# Altium footprint library 2016-03-14_16-10-16.PcbLib: 9 footprints
Each footprint in its own frame and in the unit in brackets; x right, y up, seen from the top. Pads: shape width x height; smd on the part's side, far side on the other; paste and mask are expansions set on the pad; w line width, h text height; cw(c..) or ccw(c..) is an arc to the next point about the centre after c.
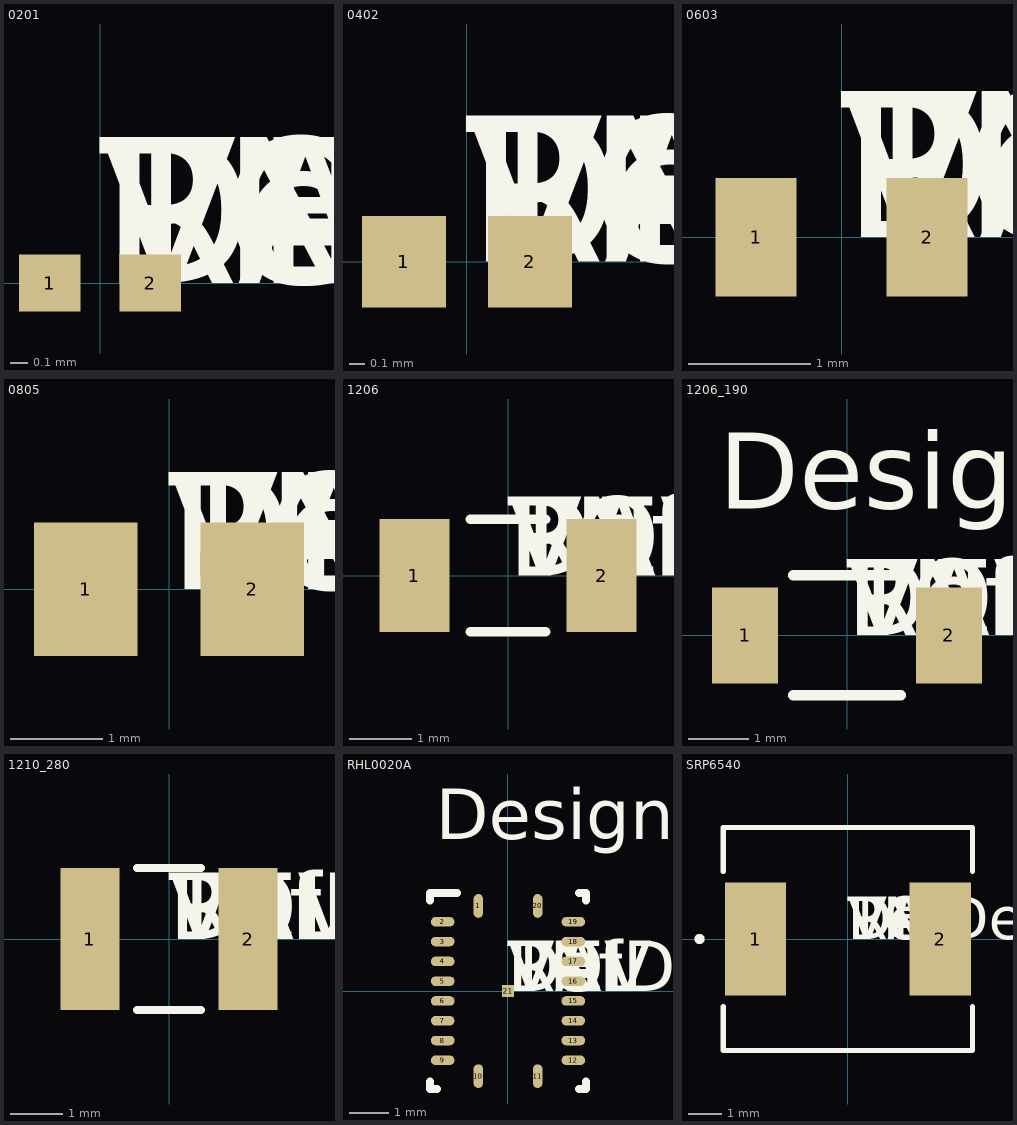
[diagram p0: the footprints below, top view; thin cyan lines are the x and y axes]

## 0201 [mil]
pads (2):
  rect 14x13 smd: 1(-11.5,0) 2(11.5,0)
Top Overlay:
  text "RefDes" at 0,0 h50
  text "DEV" at 0,0 h50
  text "PN" at 0,0 h50
  text "DEV" at 0,0 h50
  text "VAL" at 0,0 h50
  text "TOL" at 0,0 h50

## 0402 [mil]
pads (2):
  rect 22x24 smd: 1(-16.5,0) 2(16.5,0)
Top Overlay:
  text "RefDes" at 0,0 h50
  text "DEV" at 0,0 h50
  text "PN" at 0,0 h50
  text "DEV" at 0,0 h50
  text "VAL" at 0,0 h50
  text "TOL" at 0,0 h50

## 0603 [mil]
pads (2):
  rect 26x38 smd: 1(-27.5,0) 2(27.5,0)
Top Overlay:
  text "RefDes" at 0,0 h50
  text "DEV" at 0,0 h50
  text "PN" at 0,0 h50
  text "DEV" at 0,0 h50
  text "VAL" at 0,0 h50
  text "TOL" at 0,0 h50

## 0805 [mil]
pads (2):
  rect 44x57 smd: 1(-35.5,0) 2(35.5,0)
Top Overlay:
  text "RefDes" at 0,0 h50
  text "DEV" at 0,0 h50
  text "PN" at 0,0 h50
  text "DEV" at 0,0 h50
  text "VAL" at 0,0 h50
  text "TOL" at 0,0 h50

## 1206 [mil]
pads (2):
  rect 44x71 smd: 1(-59,0) 2(59,0)
Top Overlay:
  lines w6: -23.9,-35.5 23.9,-35.5 ; -23.9,35.5 23.9,35.5
  text "RefDes" at 0,0 h50
  text "DEV" at 0,0 h50
  text "PN" at 0,0 h50
  text "DEV" at 0,0 h50
  text "VAL" at 0,0 h50
  text "TOL" at 0,0 h50

## 1206_190 [mm]
pads (2):
  rect 1.1x1.6 smd paste+0 mask+0.051: 1(-1.7,0) 2(1.7,0)
Top Overlay:
  lines w0.17: -0.9,-1 0.9,-1 ; -0.9,1 0.9,1
  text "Designator12" at -2.134,2.108 h1.27
  text "RefDes" at 0,0 h1.27
  text "DEV" at 0,0 h1.27
  text "PN" at 0,0 h1.27
  text "DEV" at 0,0 h1.27
  text "VAL" at 0,0 h1.27
  text "TOL" at 0,0 h1.27

## 1210_280 [mil]
pads (2):
  rect 44x106 smd: 1(-59,0) 2(59,0)
Top Overlay:
  lines w6: -23.9,-53 23.9,-53 ; -23.9,53 23.9,53
  text "RefDes" at 0,0 h50
  text "DEV" at 0,0 h50
  text "PN" at 0,0 h50
  text "DEV" at 0,0 h50
  text "VAL" at 0,0 h50
  text "TOL" at 0,0 h50

## RHL0020A [mm]
pads (21):
  oval 0.24x0.6 smd paste-0.102 mask+0.051: 1(-0.75,2.15) 10(-0.75,-2.15) 11(0.75,-2.15) 20(0.75,2.15)
  oval 0.6x0.24 smd paste-0.102 mask+0.051: 2(-1.65,1.75) 3(-1.65,1.25) 4(-1.65,0.75) 5(-1.65,0.25) 6(-1.65,-0.25) 7(-1.65,-0.75) 8(-1.65,-1.25) 9(-1.65,-1.75) 12(1.65,-1.75) 13(1.65,-1.25) 14(1.65,-0.75) 15(1.65,-0.25) 16(1.65,0.25) 17(1.65,0.75) 18(1.65,1.25) 19(1.65,1.75)
  rect 0.3x0.3 smd paste-0.137 mask+0: 21(0,0)
Top Overlay:
  lines w0.2: -1.975,-2.29 -1.975,-2.475 -1.79,-2.475 ; -1.975,2.29 -1.975,2.475 -1.29,2.475 ; 1.79,-2.475 1.975,-2.475 1.975,-2.29 ; 1.79,2.475 1.975,2.475 1.975,2.29
  text "Designator97" at -1.829,3.835 h1.27
  text "RefDes" at 0,0 h1.27
  text "DEV" at 0,0 h1.27
  text "PN" at 0,0 h1.27
  text "DEV" at 0,0 h1.27
  text "VAL" at 0,0 h1.27
  text "TOL" at 0,0 h1.27
Top Paste:
  region: 0.1,-0.1 0.1,-1.428 1.017,-1.428 1.017,-0.1
  region: -0.1,-1.428 -0.1,-0.1 -1.017,-0.1 -1.017,-1.428
  region: -0.1,0.1 -0.1,1.428 -1.017,1.428 -1.017,0.1
  region: 0.1,1.428 0.1,0.1 1.017,0.1 1.017,1.428
  region: -0.39,1.925 -0.39,1.628 0.39,1.628 0.39,1.925
  region: -0.39,-1.628 -0.39,-1.925 0.39,-1.925 0.39,-1.628

## SRP6540 [mil]
pads (2):
  rect 72.5x134 smd: 1(-109.25,0) 2(109.25,0)
Top Overlay:
  circle w6: c-175.5,0 r3
  lines w6: -147.5,-79.95 -147.5,-132 147.5,-132 147.5,-79.95 ; -147.5,79.95 -147.5,132 147.5,132 147.5,79.95
  text "RefDes" at 0,0 h50
  text "DEV" at 0,0 h50
  text "PN" at 0,0 h50
  text "DEV" at 0,0 h50
  text "VAL" at 0,0 h50
  text "TOL" at 0,0 h50